# EAGLE library part M74HC125RM13TR (library ST Microelctronics_By_element14_Batch_1)
QUAD BUS BUFFER (3-STATE)
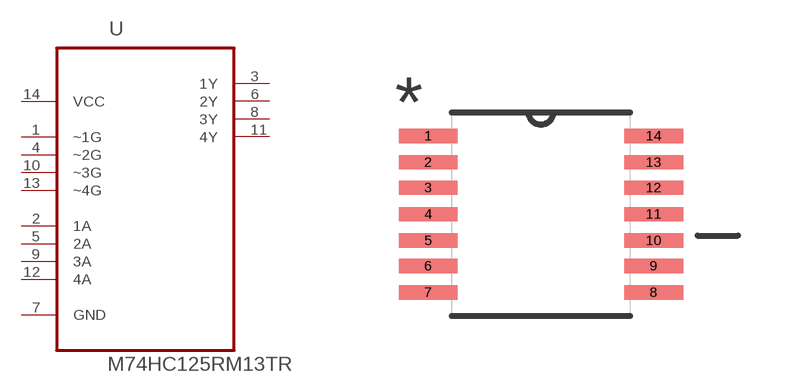
[diagram p216: symbol with the pads of SOP65P640X120-14N; footprint SOP65P640X120-14N]

Designator prefix U

## M74HC125RM13TR (MPN: M74HC125RM13TR; OC_FARNELL: 1278620; OC_NEWARK: 89K0856; PACKAGE: SOP-14; SUPPLIER: STMICROELECTRONICS)  [SOP65P640X120-14N]
1  ~1G  in
2  1A  in
3  1Y  out
4  ~2G  in
5  2A  in
6  2Y  out
7  GND  pas
8  3Y  out
9  3A  in
10  ~3G  in
11  4Y  out
12  4A  in
13  ~4G  in
14  VCC  pwr

## Footprint SOP65P640X120-14N (pad centres in mm)
smd 1.473 x 0.356: 1 -2.819,1.956; 2 -2.819,1.295; 3 -2.819,0.66; 4 -2.819,0; 5 -2.819,-0.66; 6 -2.819,-1.295; 7 -2.819,-1.956; 8 2.819,-1.956; 9 2.819,-1.295; 10 2.819,-0.66; 11 2.819,0; 12 2.819,0.66; 13 2.819,1.295; 14 2.819,1.956